# Altium schematic symbol library RESISTOR.SchLib: 2 symbols
Pins are listed as number, name and electrical type; pins without a type are passive.

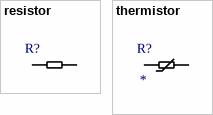
[diagram p0: symbols resistor to thermistor]

## resistor
designator R?  (value not drawn)
type: *
footprint 0805_FOOTPRINT
footprint 0201_SMD_FOOTPRINT
footprint 0402_SMD_FOOTPRINT
footprint 0603_SMD_PACKAGE
footprint 1206_SMD_FOOTPRINT
footprint THERMISTOR_THROUGH HOLE (103AT2 - 10kOhm)
pins: 1, 2

## thermistor
designator R?
type: *
footprint 0201_SMD_FOOTPRINT
footprint 0402_SMD_FOOTPRINT
footprint 0603_SMD_PACKAGE
footprint 0805_FOOTPRINT
footprint 1206_SMD_FOOTPRINT
footprint THERMISTOR_THROUGH HOLE (103AT2 - 10kOhm)
pins: 1, 2